# Altium footprint library PcbLib1.PcbLib: 15 footprints
Each footprint in its own frame and in the unit in brackets; x right, y up, seen from the top. Pads: shape width x height; smd on the part's side, far side on the other; paste and mask are expansions set on the pad; w line width, h text height; cw(c..) or ccw(c..) is an arc to the next point about the centre after c.
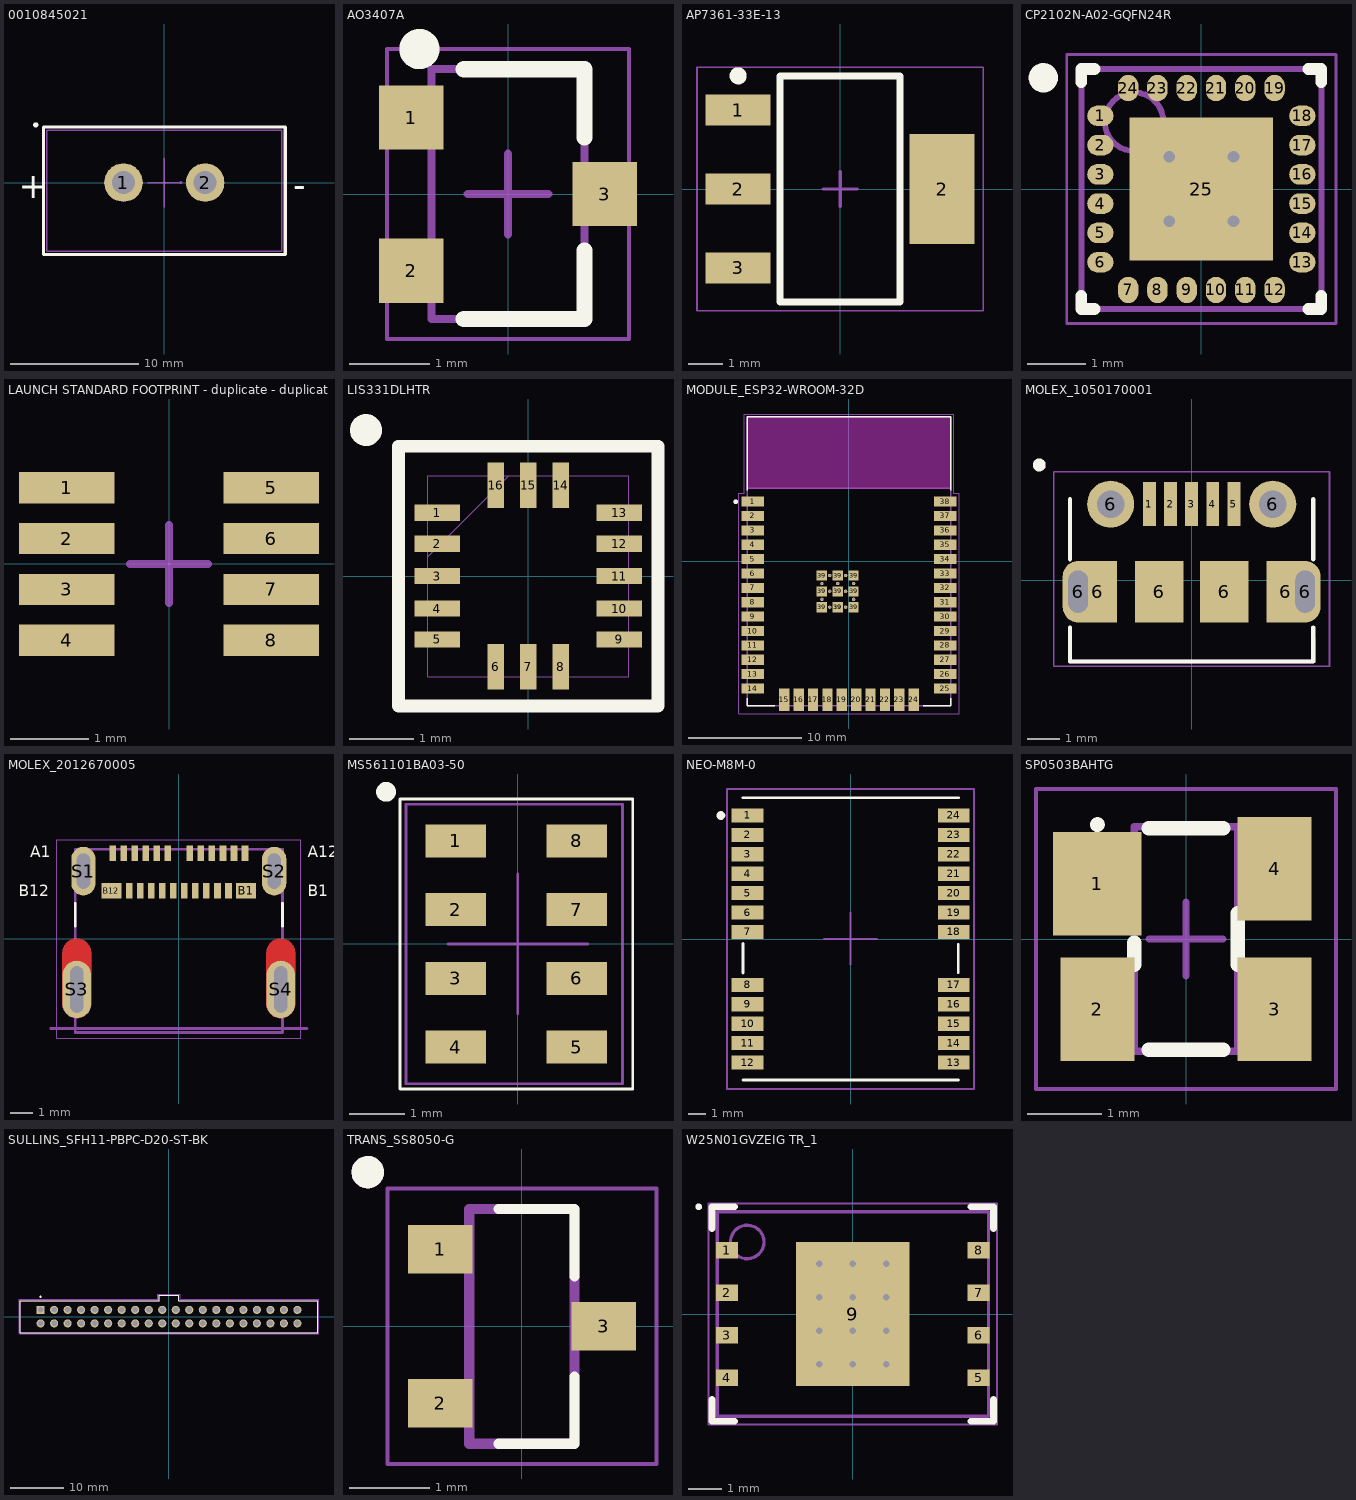
[diagram p0: the footprints below, top view; thin cyan lines are the x and y axes]

## 0010845021 [mm] "2 Position Header Connector 0.250\" (6.35mm) Through Hole Tin"
pads (2):
  round 3 hole 1.78: 1(-3.175,0) 2(3.175,0)
Top Overlay:
  circle w0.2: c-10,4.488 r0.1
  lines w0.254: -9.398,-5.588 9.398,-5.588 9.398,4.318 -9.398,4.318 -9.398,4.064 -9.398,-5.588
  text ".Designator" at -1.905,4.868 h0.51
  text "+" at -11.303,-1.222 h2
  text "-" at 10.033,-1.127 h2
Top Courtyard:
  lines w0.1: -1.27,0 1.268,0 ; 0.001,0.001 1.269,0.001 ; -9.144,-5.334 -9.144,3.81 -9.144,4.064 -8.89,4.064 9.144,4.064 9.144,-5.334 8.89,-5.334 -9.144,-5.334 ; 0,-1.905 0,1.905 0,0 0,-1.905
  lines w0.254: 0,0 0.001,0.001 ; 1.268,0 1.269,0.001
3D body "010845021.stp": height 13.99, standoff -4.94, extent -8.763,-5.08 8.763,3.81

## AO3407A [mm] "P-Channel 30 V 4.3A (Ta) 1.4W (Ta) Surface Mount SOT-23-3"
height 1.25
pads (3):
  rect 0.8x0.8 smd: 1(-1.2,0.95) 2(-1.2,-0.95) 3(1.2,0)
Top Overlay:
  circle w0.25: c-1.1,1.8 r0.125
  lines w0.2: -0.55,-1.55 0.95,-1.55 0.95,-0.7 ; -0.55,1.55 0.95,1.55 0.95,0.7
Top Courtyard:
  lines w0.05: -1.5,-1.8 -1.5,1.8 1.5,1.8 1.5,-1.8 -1.5,-1.8
  lines w0.1: -0.5,0 0.5,0 ; 0,-0.5 0,0.5
Top Assembly:
  lines w0.1: -0.95,-1.55 -0.95,1.55 0.95,1.55 0.95,-1.55 -0.95,-1.55
3D body "AO3407A.step": height 1.25, standoff 0, extent -0.95,-1.55 0.95,1.55

## AP7361-33E-13 [mm] "Linear Voltage Regulator IC Positive Fixed 1 Output 1A SOT-223-3"
height 1.65
pads (4):
  rect 1.9x0.9 smd: 1(-2.975,2.3) 2(-2.975,0) 3(-2.975,-2.3)
  rect 1.9x3.2 smd: 2(2.975,0)
Top Overlay:
  circle w0.25: c-2.975,3.3 r0.125
  lines w0.2: -1.75,-3.3 1.75,-3.3 1.75,3.3 -1.75,3.3 -1.75,-3.3
Top Courtyard:
  lines w0.05: -4.175,-3.55 4.175,-3.55 4.175,3.55 -4.175,3.55 -4.175,-3.55
  lines w0.1: -0.5,0 0.5,0 ; 0,-0.5 0,0.5
Top Assembly:
  lines w0.1: -1.775,-3.275 1.775,-3.275 1.775,3.275 -1.775,3.275 -1.775,-3.275
3D body "AP7361-33E-13.step": height 1.65, standoff 0, extent -3.5,-3.275 3.5,3.275

## CP2102N-A02-GQFN24R [mm] "USB Bridge, USB to UART USB 2.0 UART Interface 24-QFN (4x4)"
height 0.8
pads (25):
  oval 0.45x0.35 smd: 1(-1.725,1.25) 2(-1.725,0.75) 3(-1.725,0.25) 4(-1.725,-0.25) 5(-1.725,-0.75) 6(-1.725,-1.25) 13(1.725,-1.25) 14(1.725,-0.75) 15(1.725,-0.25) 16(1.725,0.25) 17(1.725,0.75) 18(1.725,1.25)
  oval 0.35x0.45 smd: 7(-1.25,-1.725) 8(-0.75,-1.725) 9(-0.25,-1.725) 10(0.25,-1.725) 11(0.75,-1.725) 12(1.25,-1.725) 19(1.25,1.725) 20(0.75,1.725) 21(0.25,1.725) 22(-0.25,1.725) 23(-0.75,1.725) 24(-1.25,1.725)
  rect 2.45x2.45 smd: 25(0,0)
via -0.55,0.55 diameter 0.5 hole 0.2
via 0.55,0.55 diameter 0.5 hole 0.2
via -0.55,-0.55 diameter 0.5 hole 0.2
via 0.55,-0.55 diameter 0.5 hole 0.2
Top Overlay:
  circle w0.25: c-2.7,1.9 r0.125
  lines w0.2: -2.05,-1.825 -2.05,-2.05 -1.825,-2.05 ; -2.05,1.825 -2.05,2.05 -1.825,2.05 ; 1.825,-2.05 2.05,-2.05 2.05,-1.825 ; 1.825,2.05 2.05,2.05 2.05,1.825
  text ".Designator" at -2.921,2.709 h0.51
Top Courtyard:
  lines w0.05: -2.3,-2.3 -2.3,2.3 2.3,2.3 2.3,-2.3 -2.3,-2.3
  lines w0.1: -0.5,0 0.5,0 ; 0,-0.5 0,0.5
Top Assembly:
  circle w0.1: c-1.15,1.15 r0.5
  lines w0.1: -2.05,-2.05 -2.05,2.05 2.05,2.05 2.05,-2.05 -2.05,-2.05
3D body "CP2102N-A02-GQFN24R.step": height 0.8, standoff 0, extent -2.05,-2.05 2.05,2.05

## LAUNCH STANDARD FOOTPRINT - duplicate - duplicate - duplicate [mm] "LAUNCH STANDARD FOOTPRINT"
pads (8):
  rect 1.22x0.4 smd: 1(-1.31,0.975) 2(-1.31,0.325) 3(-1.31,-0.325) 4(-1.31,-0.975) 5(1.31,0.975) 6(1.31,0.325) 7(1.31,-0.325) 8(1.31,-0.975)
Top Courtyard:
  lines w0.1: -0.5,0 0.5,0 ; 0,-0.5 0,0.5

## LIS331DLHTR [mil]
pads (16):
  rect 28x10 smd: 1(-56,39) 2(-56,20) 3(-56,0) 4(-56,-20) 5(-56,-39) 9(56,-39) 10(56,-20) 11(56,0) 12(56,20) 13(56,39)
  rect 10x28 smd: 6(-20,-56) 7(0,-56) 8(20,-56) 14(20,56) 15(0,56) 16(-20,56)
Top Overlay:
  circle w9.84: c-100,90 r4.92
  lines w7.87: -80,-80 -80,80 80,80 80,-80 -65,-80 -80,-80
  text ".Designator" at -80,101.66 h20
Mechanical 13:
  lines w0: -62,-44 -62,-34 ; -62,-25 -62,-15 ; -62,-5 -62,5 ; -62,12 -12,62 ; -62,15 -62,25 ; -62,34 -62,44 ; -25,-62 -15,-62 ; -25,62 -15,62 ; -5,-62 5,-62 ; -5,62 5,62 ; 15,-62 25,-62 ; 15,62 25,62 ; 62,-44 62,-34 ; 62,-25 62,-15 ; 62,-5 62,5 ; 62,15 62,25 ; 62,34 62,44 ; -62,-62 62,-62 62,62 -62,62 -62,-62
3D body "LIS331DLHTR.STEP": height 39.37, standoff 0, extent -59.06,-59.06 59.06,59.06

## MODULE_ESP32-WROOM-32D [mm]
pads (59):
  rect 2x0.9 smd: 1(-8.5,5.26) 2(-8.5,3.99) 3(-8.5,2.72) 4(-8.5,1.45) 5(-8.5,0.18) 6(-8.5,-1.09) 7(-8.5,-2.36) 8(-8.5,-3.63) 9(-8.5,-4.9) 10(-8.5,-6.17) 11(-8.5,-7.44) 12(-8.5,-8.71) 13(-8.5,-9.98) 14(-8.5,-11.25) 25(8.5,-11.25) 26(8.5,-9.98) 27(8.5,-8.71) 28(8.5,-7.44) 29(8.5,-6.17) 30(8.5,-4.9) 31(8.5,-3.63) 32(8.5,-2.36) 33(8.5,-1.09) 34(8.5,0.18) 35(8.5,1.45) 36(8.5,2.72) 37(8.5,3.99) 38(8.5,5.26)
  rect 0.9x2 smd: 15(-5.715,-12.25) 16(-4.445,-12.25) 17(-3.175,-12.25) 18(-1.905,-12.25) 19(-0.635,-12.25) 20(0.635,-12.25) 21(1.905,-12.25) 22(3.175,-12.25) 23(4.445,-12.25) 24(5.715,-12.25)
  rect 0.9x0.9 smd: 39(-2.4,-4.075) 39(-2.4,-2.675) 39(-2.4,-1.275) 39(-1,-4.075) 39(-1,-4.075) 39(-1,-2.675) 39(-1,-1.275) 39(0.4,-4.075) 39(0.4,-2.675) 39(0.4,-1.275)
  round 0.3 hole 0.2: 39(-2.389,-3.375) 39(-2.389,-1.975) 39(-1.7,-4.064) 39(-1.7,-2.664) 39(-1.7,-1.264) 39(-0.989,-1.975) 39(-0.3,-4.064) 39(-0.3,-2.664) 39(-0.3,-1.264) 39(0.411,-3.375) 39(0.411,-1.975)
Top Overlay:
  circle w0.2: c-10,5.25 r0.1
  lines w0.127: -9,-12.1 -9,-12.75 -6.55,-12.75 ; -9,6.25 -9,12.75 9,12.75 9,6.25 ; 6.55,-12.75 9,-12.75 9,-12.1
  text ".Designator" at -10.795,6.392 h0.51
Keep-Out Layer:
  region: 9,6.45 -9,6.45 -9,12.75 9,12.75
Top Courtyard:
  lines w0.05: -9.75,-13.5 -9.75,6 -9.25,6 -9.25,13 9.25,13 9.25,6 9.75,6 9.75,-13.5 -9.75,-13.5
Mechanical 13:
  circle w0.2: c-10,5.25 r0.1
  lines w0.127: -9,6.45 9,6.45 ; -9,6.45 -9,12.75 9,12.75 9,6.45 ; -9,6.45 -9,-12.75 9,-12.75 9,6.45
  text "ANTENNA" at -6,9 h1.78
3D body "ESP32-WROOM-32--3DModel-STEP-1.STEP": height 3.2, standoff 0, extent -9,-12.75 9,12.75

## MOLEX_1050170001 [mm]
pads (13):
  rect 0.4x1.35 smd: 1(-1.3,2.35) 2(-0.65,2.35) 3(0,2.35) 4(0.65,2.35) 5(1.3,2.35)
  oval 0.95x1.9 hole 0.6 slot 1.3 at 90 deg: 6(-3.5,-0.35) 6(3.5,-0.35)
  rect 1.2x1.9 smd: 6(-2.9,-0.35) 6(2.9,-0.35)
  round 1.45 hole 0.85: 6(-2.5,2.35) 6(2.5,2.35)
  rect 1.5x1.9 smd: 6(-1,-0.35) 6(1,-0.35)
Top Overlay:
  circle w0.2: c-4.699,3.556 r0.1
  lines w0.127: -3.75,-1.45 -3.75,-2.5 3.75,-2.5 3.75,-1.45 ; -3.75,0.65 -3.75,2.5 ; 3.75,0.65 3.75,2.5
  text ".Designator" at -4.318,3.852 h0.51
Top Courtyard:
  lines w0.05: -4.25,-2.65 4.25,-2.65 4.25,3.35 -4.25,3.35 -4.25,-2.65
Mechanical 13:
  circle w0.2: c-1.3,1.9 r0.1
  lines w0.127: -3.75,-2.5 3.75,-2.5 3.75,-1.8 ; -3.75,-2.45 -3.75,-1.8
3D body "1050170001--3DModel-STEP-1.STEP": height 2.75, standoff -0.73, extent -4,-3.027 4,2.373

## MOLEX_2012670005 [mm]
pads (28):
  rect 0.3x0.7 smd: A1(-3,3.885) A2(-2.5,3.885) A3(-2,3.885) A4(-1.5,3.885) A5(-1,3.885) A6(-0.5,3.885) A7(0.5,3.885) A8(1,3.885) A9(1.5,3.885) A10(2,3.885) A11(2.5,3.885) A12(3,3.885) B2(2.25,2.185) B3(1.75,2.185) B4(1.25,2.185) B5(0.75,2.185) B6(0.25,2.185) B7(-0.25,2.185) B8(-0.75,2.185) B9(-1.25,2.185) B10(-1.75,2.185) B11(-2.25,2.185)
  rect 0.9x0.7 smd: B1(3.05,2.185) B12(-3.05,2.185)
  oval 1.1x2.2 hole 0.6 slot 1.6 at 90 deg: S1(-4.32,3.075) S2(4.32,3.075)
  oval 1.3x2.6 hole 0.6 slot 2.1 at 90 deg: S3(-4.62,-2.285) S4(4.62,-2.285)
Top Layer:
  region: -4.586,0.014 -4.552,0.011 -4.518,0.007 -4.485,0.001 -4.452,-0.007 -4.419,-0.017 -4.387,-0.028 -4.356,-0.041 -4.325,-0.056 -4.295,-0.072 -4.266,-0.09 -4.238,-0.109 -4.211,-0.13 -4.185,-0.152 -4.16,-0.175 -4.137,-0.2 -4.115,-0.226 -4.094,-0.253 -4.075,-0.281 -4.057,-0.31 -4.041,-0.34 -4.026,-0.371 -4.013,-0.402 -4.002,-0.434 -3.992,-0.467 -3.984,-0.5 -3.978,-0.533 -3.974,-0.567 -3.971,-0.601 -3.97,-0.635 -3.97,-2.935 -3.971,-2.969 -3.974,-3.003 -3.978,-3.037 -3.984,-3.07 -3.992,-3.103 -4.002,-3.136 -4.013,-3.168 -4.026,-3.199 -4.041,-3.23 -4.057,-3.26 -4.075,-3.289 -4.094,-3.317 -4.115,-3.344 -4.137,-3.37 -4.16,-3.395 -4.185,-3.418 -4.211,-3.44 -4.238,-3.461 -4.266,-3.48 -4.295,-3.498 -4.325,-3.514 -4.356,-3.529 -4.387,-3.542 -4.419,-3.553 -4.452,-3.563 -4.485,-3.571 -4.518,-3.577 -4.552,-3.581 -4.586,-3.584 -4.62,-3.585 -4.654,-3.584 -4.688,-3.581 -4.722,-3.577 -4.755,-3.571 -4.788,-3.563 -4.821,-3.553 -4.853,-3.542 -4.884,-3.529 -4.915,-3.514 -4.945,-3.498 -4.974,-3.48 -5.002,-3.461 -5.029,-3.44 -5.055,-3.418 -5.08,-3.395 -5.103,-3.37 -5.125,-3.344 -5.146,-3.317 -5.165,-3.289 -5.183,-3.26 -5.199,-3.23 -5.214,-3.199 -5.227,-3.168 -5.238,-3.136 -5.248,-3.103 -5.256,-3.07 -5.262,-3.037 -5.266,-3.003 -5.269,-2.969 -5.27,-2.935 -5.27,-0.635 -5.269,-0.601 -5.266,-0.567 -5.262,-0.533 -5.256,-0.5 -5.248,-0.467 -5.238,-0.434 -5.227,-0.402 -5.214,-0.371 -5.199,-0.34 -5.183,-0.31 -5.165,-0.281 -5.146,-0.253 -5.125,-0.226 -5.103,-0.2 -5.08,-0.175 -5.055,-0.152 -5.029,-0.13 -5.002,-0.109 -4.974,-0.09 -4.945,-0.072 -4.915,-0.056 -4.884,-0.041 -4.853,-0.028 -4.821,-0.017 -4.788,-0.007 -4.755,0.001 -4.722,0.007 -4.688,0.011 -4.654,0.014 -4.62,0.015
  region: 4.654,0.014 4.688,0.011 4.722,0.007 4.755,0.001 4.788,-0.007 4.821,-0.017 4.853,-0.028 4.884,-0.041 4.915,-0.056 4.945,-0.072 4.974,-0.09 5.002,-0.109 5.029,-0.13 5.055,-0.152 5.08,-0.175 5.103,-0.2 5.125,-0.226 5.146,-0.253 5.165,-0.281 5.183,-0.31 5.199,-0.34 5.214,-0.371 5.227,-0.402 5.238,-0.434 5.248,-0.467 5.256,-0.5 5.262,-0.533 5.266,-0.567 5.269,-0.601 5.27,-0.635 5.27,-2.935 5.269,-2.969 5.266,-3.003 5.262,-3.037 5.256,-3.07 5.248,-3.103 5.238,-3.136 5.227,-3.168 5.214,-3.199 5.199,-3.23 5.183,-3.26 5.165,-3.289 5.146,-3.317 5.125,-3.344 5.103,-3.37 5.08,-3.395 5.055,-3.418 5.029,-3.44 5.002,-3.461 4.974,-3.48 4.945,-3.498 4.915,-3.514 4.884,-3.529 4.853,-3.542 4.821,-3.553 4.788,-3.563 4.755,-3.571 4.722,-3.577 4.688,-3.581 4.654,-3.584 4.62,-3.585 4.586,-3.584 4.552,-3.581 4.518,-3.577 4.485,-3.571 4.452,-3.563 4.419,-3.553 4.387,-3.542 4.356,-3.529 4.325,-3.514 4.295,-3.498 4.266,-3.48 4.238,-3.461 4.211,-3.44 4.185,-3.418 4.16,-3.395 4.137,-3.37 4.115,-3.344 4.094,-3.317 4.075,-3.289 4.057,-3.26 4.041,-3.23 4.026,-3.199 4.013,-3.168 4.002,-3.136 3.992,-3.103 3.984,-3.07 3.978,-3.037 3.974,-3.003 3.971,-2.969 3.97,-2.935 3.97,-0.635 3.971,-0.601 3.974,-0.567 3.978,-0.533 3.984,-0.5 3.992,-0.467 4.002,-0.434 4.013,-0.402 4.026,-0.371 4.041,-0.34 4.057,-0.31 4.075,-0.281 4.094,-0.253 4.115,-0.226 4.137,-0.2 4.16,-0.175 4.185,-0.152 4.211,-0.13 4.238,-0.109 4.266,-0.09 4.295,-0.072 4.325,-0.056 4.356,-0.041 4.387,-0.028 4.419,-0.017 4.452,-0.007 4.485,0.001 4.518,0.007 4.552,0.011 4.586,0.014 4.62,0.015
Bottom Layer:
  region: -4.586,0.014 -4.552,0.011 -4.518,0.007 -4.485,0.001 -4.452,-0.007 -4.419,-0.017 -4.387,-0.028 -4.356,-0.041 -4.325,-0.056 -4.295,-0.072 -4.266,-0.09 -4.238,-0.109 -4.211,-0.13 -4.185,-0.152 -4.16,-0.175 -4.137,-0.2 -4.115,-0.226 -4.094,-0.253 -4.075,-0.281 -4.057,-0.31 -4.041,-0.34 -4.026,-0.371 -4.013,-0.402 -4.002,-0.434 -3.992,-0.467 -3.984,-0.5 -3.978,-0.533 -3.974,-0.567 -3.971,-0.601 -3.97,-0.635 -3.97,-2.935 -3.971,-2.969 -3.974,-3.003 -3.978,-3.037 -3.984,-3.07 -3.992,-3.103 -4.002,-3.136 -4.013,-3.168 -4.026,-3.199 -4.041,-3.23 -4.057,-3.26 -4.075,-3.289 -4.094,-3.317 -4.115,-3.344 -4.137,-3.37 -4.16,-3.395 -4.185,-3.418 -4.211,-3.44 -4.238,-3.461 -4.266,-3.48 -4.295,-3.498 -4.325,-3.514 -4.356,-3.529 -4.387,-3.542 -4.419,-3.553 -4.452,-3.563 -4.485,-3.571 -4.518,-3.577 -4.552,-3.581 -4.586,-3.584 -4.62,-3.585 -4.654,-3.584 -4.688,-3.581 -4.722,-3.577 -4.755,-3.571 -4.788,-3.563 -4.821,-3.553 -4.853,-3.542 -4.884,-3.529 -4.915,-3.514 -4.945,-3.498 -4.974,-3.48 -5.002,-3.461 -5.029,-3.44 -5.055,-3.418 -5.08,-3.395 -5.103,-3.37 -5.125,-3.344 -5.146,-3.317 -5.165,-3.289 -5.183,-3.26 -5.199,-3.23 -5.214,-3.199 -5.227,-3.168 -5.238,-3.136 -5.248,-3.103 -5.256,-3.07 -5.262,-3.037 -5.266,-3.003 -5.269,-2.969 -5.27,-2.935 -5.27,-0.635 -5.269,-0.601 -5.266,-0.567 -5.262,-0.533 -5.256,-0.5 -5.248,-0.467 -5.238,-0.434 -5.227,-0.402 -5.214,-0.371 -5.199,-0.34 -5.183,-0.31 -5.165,-0.281 -5.146,-0.253 -5.125,-0.226 -5.103,-0.2 -5.08,-0.175 -5.055,-0.152 -5.029,-0.13 -5.002,-0.109 -4.974,-0.09 -4.945,-0.072 -4.915,-0.056 -4.884,-0.041 -4.853,-0.028 -4.821,-0.017 -4.788,-0.007 -4.755,0.001 -4.722,0.007 -4.688,0.011 -4.654,0.014 -4.62,0.015
  region: 4.654,0.014 4.688,0.011 4.722,0.007 4.755,0.001 4.788,-0.007 4.821,-0.017 4.853,-0.028 4.884,-0.041 4.915,-0.056 4.945,-0.072 4.974,-0.09 5.002,-0.109 5.029,-0.13 5.055,-0.152 5.08,-0.175 5.103,-0.2 5.125,-0.226 5.146,-0.253 5.165,-0.281 5.183,-0.31 5.199,-0.34 5.214,-0.371 5.227,-0.402 5.238,-0.434 5.248,-0.467 5.256,-0.5 5.262,-0.533 5.266,-0.567 5.269,-0.601 5.27,-0.635 5.27,-2.935 5.269,-2.969 5.266,-3.003 5.262,-3.037 5.256,-3.07 5.248,-3.103 5.238,-3.136 5.227,-3.168 5.214,-3.199 5.199,-3.23 5.183,-3.26 5.165,-3.289 5.146,-3.317 5.125,-3.344 5.103,-3.37 5.08,-3.395 5.055,-3.418 5.029,-3.44 5.002,-3.461 4.974,-3.48 4.945,-3.498 4.915,-3.514 4.884,-3.529 4.853,-3.542 4.821,-3.553 4.788,-3.563 4.755,-3.571 4.722,-3.577 4.688,-3.581 4.654,-3.584 4.62,-3.585 4.586,-3.584 4.552,-3.581 4.518,-3.577 4.485,-3.571 4.452,-3.563 4.419,-3.553 4.387,-3.542 4.356,-3.529 4.325,-3.514 4.295,-3.498 4.266,-3.48 4.238,-3.461 4.211,-3.44 4.185,-3.418 4.16,-3.395 4.137,-3.37 4.115,-3.344 4.094,-3.317 4.075,-3.289 4.057,-3.26 4.041,-3.23 4.026,-3.199 4.013,-3.168 4.002,-3.136 3.992,-3.103 3.984,-3.07 3.978,-3.037 3.974,-3.003 3.971,-2.969 3.97,-2.935 3.97,-0.635 3.971,-0.601 3.974,-0.567 3.978,-0.533 3.984,-0.5 3.992,-0.467 4.002,-0.434 4.013,-0.402 4.026,-0.371 4.041,-0.34 4.057,-0.31 4.075,-0.281 4.094,-0.253 4.115,-0.226 4.137,-0.2 4.16,-0.175 4.185,-0.152 4.211,-0.13 4.238,-0.109 4.266,-0.09 4.295,-0.072 4.325,-0.056 4.356,-0.041 4.387,-0.028 4.419,-0.017 4.452,-0.007 4.485,0.001 4.518,0.007 4.552,0.011 4.586,0.014 4.62,0.015
Top Overlay:
  lines w0.127: -4.695,0.575 -4.695,1.615 ; 4.695,0.575 4.695,1.615
  text "B1" at 5.842,1.932 h0.51
  text "A12" at 5.842,3.71 h0.51
  text "B12" at -7.239,1.932 h0.51
  text "A1" at -6.731,3.71 h0.51
Top Solder:
  drawing of 2 lines, arcs and shapes, not listed
Bottom Solder:
  drawing of 2 lines, arcs and shapes, not listed
Mechanical 13:
  lines w0.127: -5.8,-4.055 5.8,-4.055 ; -4.695,-4.235 -4.695,4.065 4.695,4.065 4.695,-4.235 -4.695,-4.235
  text "B12" at -7.239,1.932 h0.51
  text "B1" at 5.842,1.932 h0.51
  text "A12" at 5.842,3.71 h0.51
  text "A1" at -6.731,3.71 h0.51
  text "PCB Edge" at 5.715,-3.783 h0.61
Mechanical 15:
  lines w0.05: -5.52,-4.485 -5.52,4.485 5.52,4.485 5.52,-4.485 -5.52,-4.485
3D body "201267-0005.stp": height 3.01, standoff -3, extent -4.905,-4.149 4.485,4.151

## MS561101BA03-50 [mm] "Pressure Sensor 0.15PSI ~ 17.4PSI (1kPa ~ 120kPa) Absolute 24 b 8-SMD"
pads (8):
  rect 1.1x0.6 smd: 1(-1.125,1.875) 2(-1.125,0.625) 3(-1.125,-0.625) 4(-1.125,-1.875) 5(1.075,-1.875) 6(1.075,-0.625) 7(1.075,0.625) 8(1.075,1.875)
Top Overlay:
  circle w0.254: c-2.395,2.764 r0.052
  lines w0.051: -2.141,-2.637 2.091,-2.637 2.091,2.637 -2.141,2.637 -2.141,-2.637
  text ".Designator" at -2.032,3.09 h0.51
Top Courtyard:
  lines w0.051: -2.032,1.524 -2.032,2.54 ; -1.27,0 1.27,0 ; 0,-1.27 0,1.27 ; -2.032,2.54 1.905,2.54 1.905,-2.54 -2.032,-2.54 -2.032,0.762 -2.032,2.54
3D body "MS5611-01BA03.stp": height 1, standoff -0.02, extent -1.5,-2.5 1.5,2.5

## NEO-M8M-0 [mm] "u-blox NEO GNSS module"
pads (24):
  rect 1.8x0.8 smd paste-0.1: 1(-5.842,7) 2(-5.842,5.9) 3(-5.842,4.8) 4(-5.842,3.7) 5(-5.842,2.6) 6(-5.842,1.5) 7(-5.842,0.4) 8(-5.842,-2.6) 9(-5.842,-3.7) 10(-5.842,-4.8) 11(-5.842,-5.9) 12(-5.842,-7) 13(5.842,-7) 14(5.842,-5.9) 15(5.842,-4.8) 16(5.842,-3.7) 17(5.842,-2.6) 18(5.842,0.4) 19(5.842,1.5) 20(5.842,2.6) 21(5.842,3.7) 22(5.842,4.8) 23(5.842,5.9) 24(5.842,7)
Top Overlay:
  circle w0.38: c-7.35,7 r0.058
  lines w0.16: -6.096,-1.919 -6.096,-0.255 ; -6.096,8 6.109,8 ; -6.09,-7.996 6.109,-7.996 ; 6.102,-1.893 6.102,-0.299
  text ".Designator" at -9.017,7.916 h0.51
Top Courtyard:
  lines w0.1: -1.501,0 0,0 ; 0,-1.445 0,0 ; 0,1.519 0,0 ; 1.499,0 0,0 ; -7,-8.5 7,-8.5 7,8.5 -7,8.5 -7,-8.5
Top Assembly:
  text ".Designator" at 0.1,0.433 h1
3D body "NEO (STEP-AP214)_B.STEP": height 2.28, standoff -0.05, extent -6.096,-8 6.104,8

## SP0503BAHTG [mm] "8.5V Clamp Ipp Tvs Diode Surface Mount SOT-143-4"
height 1.22
pads (4):
  rect 1.2x1.4 smd: 1(-1.2,0.75)
  rect 1x1.4 smd: 2(-1.2,-0.95) 3(1.2,-0.95) 4(1.2,0.95)
Top Overlay:
  circle w0.1: c-1.2,1.55 r0.05
  lines w0.2: -0.7,-0.35 -0.7,-0.05 ; -0.5,-1.5 0.5,-1.5 ; -0.5,1.5 0.5,1.5 ; 0.7,-0.35 0.7,0.35
Top Courtyard:
  lines w0.05: -2.032,-2.032 -2.032,2.032 2.032,2.032 2.032,-2.032 -2.032,-2.032
  lines w0.1: -0.5,0 0.5,0 ; 0,-0.5 0,0.5
Top Assembly:
  lines w0.1: -0.7,-1.52 -0.7,1.52 0.7,1.52 0.7,-1.52 -0.7,-1.52
3D body "SP0503BAHTG.step": height 1.22, standoff 0.13, extent -0.858,-1.52 0.858,1.52

## SULLINS_SFH11-PBPC-D20-ST-BK [mm]
pads (40):
  rect 1.53x1.53 hole 1.02: 01(-24.13,1.27)
  round 1.53 hole 1.02: 02(-24.13,-1.27) 03(-21.59,1.27) 04(-21.59,-1.27) 05(-19.05,1.27) 06(-19.05,-1.27) 07(-16.51,1.27) 08(-16.51,-1.27) 09(-13.97,1.27) 10(-13.97,-1.27) 11(-11.43,1.27) 12(-11.43,-1.27) 13(-8.89,1.27) 14(-8.89,-1.27) 15(-6.35,1.27) 16(-6.35,-1.27) 17(-3.81,1.27) 18(-3.81,-1.27) 19(-1.27,1.27) 20(-1.27,-1.27) 21(1.27,1.27) 22(1.27,-1.27) 23(3.81,1.27) 24(3.81,-1.27) 25(6.35,1.27) 26(6.35,-1.27) 27(8.89,1.27) 28(8.89,-1.27) 29(11.43,1.27) 30(11.43,-1.27) 31(13.97,1.27) 32(13.97,-1.27) 33(16.51,1.27) 34(16.51,-1.27) 35(19.05,1.27) 36(19.05,-1.27) 37(21.59,1.27) 38(21.59,-1.27) 39(24.13,1.27) 40(24.13,-1.27)
Top Overlay:
  circle w0.2: c-24.154,3.746 r0.1
  lines w0.127: -27.94,-3 -27.94,3 -1.85,3 -1.85,4 1.85,4 1.85,3 27.94,3 27.94,-3 -27.94,-3
Mechanical 13:
  circle w0.2: c-24.154,3.746 r0.1
  lines w0.127: -27.94,-3 -27.94,3 -1.85,3 -1.85,4 1.85,4 1.85,3 27.94,3 27.94,-3 -27.94,-3
Mechanical 15:
  lines w0.05: -28.19,-3.25 -28.19,3.25 -2.1,3.25 -2.1,4.25 2.1,4.25 2.1,3.25 28.19,3.25 28.19,-3.25 -28.19,-3.25
3D body "step_temp.STEP": height 8.5, standoff -3.2, extent -27.94,-3 27.94,4

## TRANS_SS8050-G [mm]
pads (3):
  rect 0.8x0.6 smd: 1(-1.01,0.95) 2(-1.01,-0.95) 3(1.01,0)
Top Overlay:
  circle w0.2: c-1.905,1.905 r0.1
  lines w0.127: -0.29,-1.45 0.65,-1.45 0.65,-0.62 ; -0.29,1.45 0.65,1.45 0.65,0.62
  text ".Designator" at -1.27,2.074 h0.51
Top Courtyard:
  lines w0.05: -1.66,-1.7 -1.66,1.7 1.66,1.7 1.66,-1.7 -1.66,-1.7
Top Assembly:
  lines w0.127: -0.65,-1.45 -0.65,1.45 0.65,1.45 0.65,-1.45 -0.65,-1.45
Mechanical 13:
  circle w0.2: c-1.905,1.905 r0.1
3D body "TRAN_SS8050-G_CIP.step": height 1.04, standoff 0, extent -1.275,-1.499 1.275,1.499

## W25N01GVZEIG TR_1 [mm] "FLASH - NAND Memory IC 1Gb (128M x 8) SPI 104 MHz 8-WSON (8x6)"
height 0.8
pads (9):
  rect 0.65x0.5 smd: 1(-3.755,1.905) 2(-3.755,0.635) 3(-3.755,-0.635) 4(-3.755,-1.905) 5(3.755,-1.905) 6(3.755,-0.635) 7(3.755,0.635) 8(3.755,1.905)
  rect 3.4x4.3 smd paste-1.7: 9(0,0)
via -1,1.5 diameter 0.5 hole 0.2
via 0,1.5 diameter 0.5 hole 0.2
via 1,1.5 diameter 0.5 hole 0.2
via -1,0.5 diameter 0.5 hole 0.2
via 0,0.5 diameter 0.5 hole 0.2
via 1,0.5 diameter 0.5 hole 0.2
via -1,-0.5 diameter 0.5 hole 0.2
via 0,-0.5 diameter 0.5 hole 0.2
via 1,-0.5 diameter 0.5 hole 0.2
via -1,-1.5 diameter 0.5 hole 0.2
via 0,-1.5 diameter 0.5 hole 0.2
via 1,-1.5 diameter 0.5 hole 0.2
Top Overlay:
  circle w0.1: c-4.6,3.2 r0.05
  lines w0.2: -4.2,-2.555 -4.2,-3.2 -3.53,-3.2 ; -4.2,2.555 -4.2,3.2 -3.53,3.2 ; 3.53,-3.2 4.2,-3.2 4.2,-2.555 ; 3.53,3.2 4.2,3.2 4.2,2.555
  text ".Designator" at -4.191,3.471 h0.51
Top Paste:
  rectangle: -1.595,0.815 -0.665,2.045
  rectangle: -1.595,-0.615 -0.665,0.615
  rectangle: -1.595,-2.045 -0.665,-0.815
  rectangle: -0.465,0.815 0.465,2.045
  rectangle: -0.465,-0.615 0.465,0.615
  rectangle: -0.465,-2.045 0.465,-0.815
  rectangle: 0.665,0.815 1.595,2.045
  rectangle: 0.665,-0.615 1.595,0.615
  rectangle: 0.665,-2.045 1.595,-0.815
Top Courtyard:
  lines w0.05: -4.305,-3.3 -4.305,3.3 4.305,3.3 4.305,-3.3 -4.305,-3.3
  lines w0.1: -0.5,0 0.5,0 ; 0,-0.5 0,0.5
Top Assembly:
  circle w0.1: c-3.15,2.15 r0.5
  lines w0.1: -4.05,-3.05 -4.05,3.05 4.05,3.05 4.05,-3.05 -4.05,-3.05
3D body "W25N01GVZEIG TR_1.step": height 0.8, standoff 0, extent -4.051,-3.05 4.051,3.05